# EAGLE library part OLED-23902 (library Module)
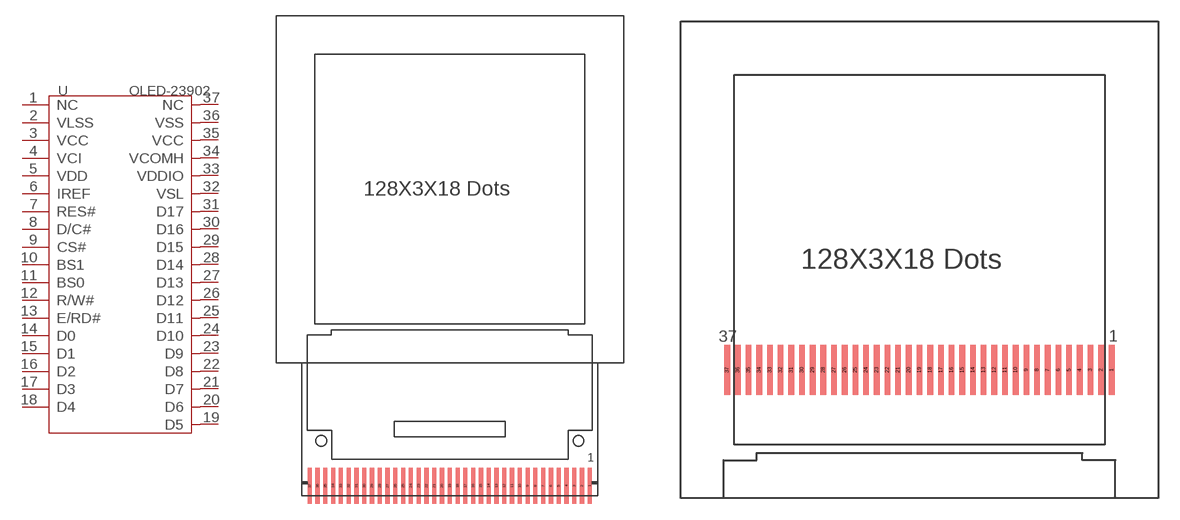
[diagram p20: symbol with the pads of 37P-0.75-33.5X30; footprints 37P-0.75-33.5X30, 37P-0.75-33.5X30-D180]

Designator prefix U

## OLED-23902'D0'  [37P-0.75-33.5X30]
1  NC  nc
2  VLSS  sup
3  VCC  sup
4  VCI  sup
5  VDD  sup
6  IREF
7  RES#  in
8  D/C#
9  CS#  in
10  BS1  in
11  BS0  in
12  R/W#
13  E/RD#
14  D0
15  D1
16  D2
17  D3
18  D4
19  D5
20  D6
21  D7
22  D8
23  D9
24  D10
25  D11
26  D12
27  D13
28  D14
29  D15
30  D16
31  D17
32  VSL  in
33  VDDIO  sup
34  VCOMH
35  VCC  sup
36  VSS  sup
37  NC  nc

## OLED-23902'D180'  [37P-0.75-33.5X30-D180]
Pads as for 37P-0.75-33.5X30

## Footprint 37P-0.75-33.5X30 (pad centres in mm)
smd 0.4 x 3.5: 1 13.5,-28.63; 2 12.75,-28.63; 3 12,-28.63; 4 11.25,-28.63; 5 10.5,-28.63; 6 9.75,-28.63; 7 9,-28.63; 8 8.25,-28.63; 9 7.5,-28.63; 10 6.75,-28.63; 11 6,-28.63; 12 5.25,-28.63; 13 4.5,-28.63; 14 3.75,-28.63; 15 3,-28.63; 16 2.25,-28.63; 17 1.5,-28.63; 18 0.75,-28.63; 19 0,-28.63; 20 -0.75,-28.63; 21 -1.5,-28.63; 22 -2.25,-28.63; 23 -3,-28.63; 24 -3.75,-28.63; 25 -4.5,-28.63; 26 -5.25,-28.63; 27 -6,-28.63; 28 -6.75,-28.63; 29 -7.5,-28.63; 30 -8.25,-28.63; 31 -9,-28.63; 32 -9.75,-28.63; 33 -10.5,-28.63; 34 -11.25,-28.63; 35 -12,-28.63; 36 -12.75,-28.63; 37 -13.5,-28.63

## Footprint 37P-0.75-33.5X30-D180 (pad centres in mm)
smd 0.4 x 3.5: 1 13.5,-7.75; 2 12.75,-7.75; 3 12,-7.75; 4 11.25,-7.75; 5 10.5,-7.75; 6 9.75,-7.75; 7 9,-7.75; 8 8.25,-7.75; 9 7.5,-7.75; 10 6.75,-7.75; 11 6,-7.75; 12 5.25,-7.75; 13 4.5,-7.75; 14 3.75,-7.75; 15 3,-7.75; 16 2.25,-7.75; 17 1.5,-7.75; 18 0.75,-7.75; 19 0,-7.75; 20 -0.75,-7.75; 21 -1.5,-7.75; 22 -2.25,-7.75; 23 -3,-7.75; 24 -3.75,-7.75; 25 -4.5,-7.75; 26 -5.25,-7.75; 27 -6,-7.75; 28 -6.75,-7.75; 29 -7.5,-7.75; 30 -8.25,-7.75; 31 -9,-7.75; 32 -9.75,-7.75; 33 -10.5,-7.75; 34 -11.25,-7.75; 35 -12,-7.75; 36 -12.75,-7.75; 37 -13.5,-7.75